# Altium footprint library PCB1.PcbLib: 18 footprints (part 1 of 2)
Each footprint in its own frame and in the unit in brackets; x right, y up, seen from the top. Pads: shape width x height; smd on the part's side, far side on the other; paste and mask are expansions set on the pad; w line width, h text height; cw(c..) or ccw(c..) is an arc to the next point about the centre after c.
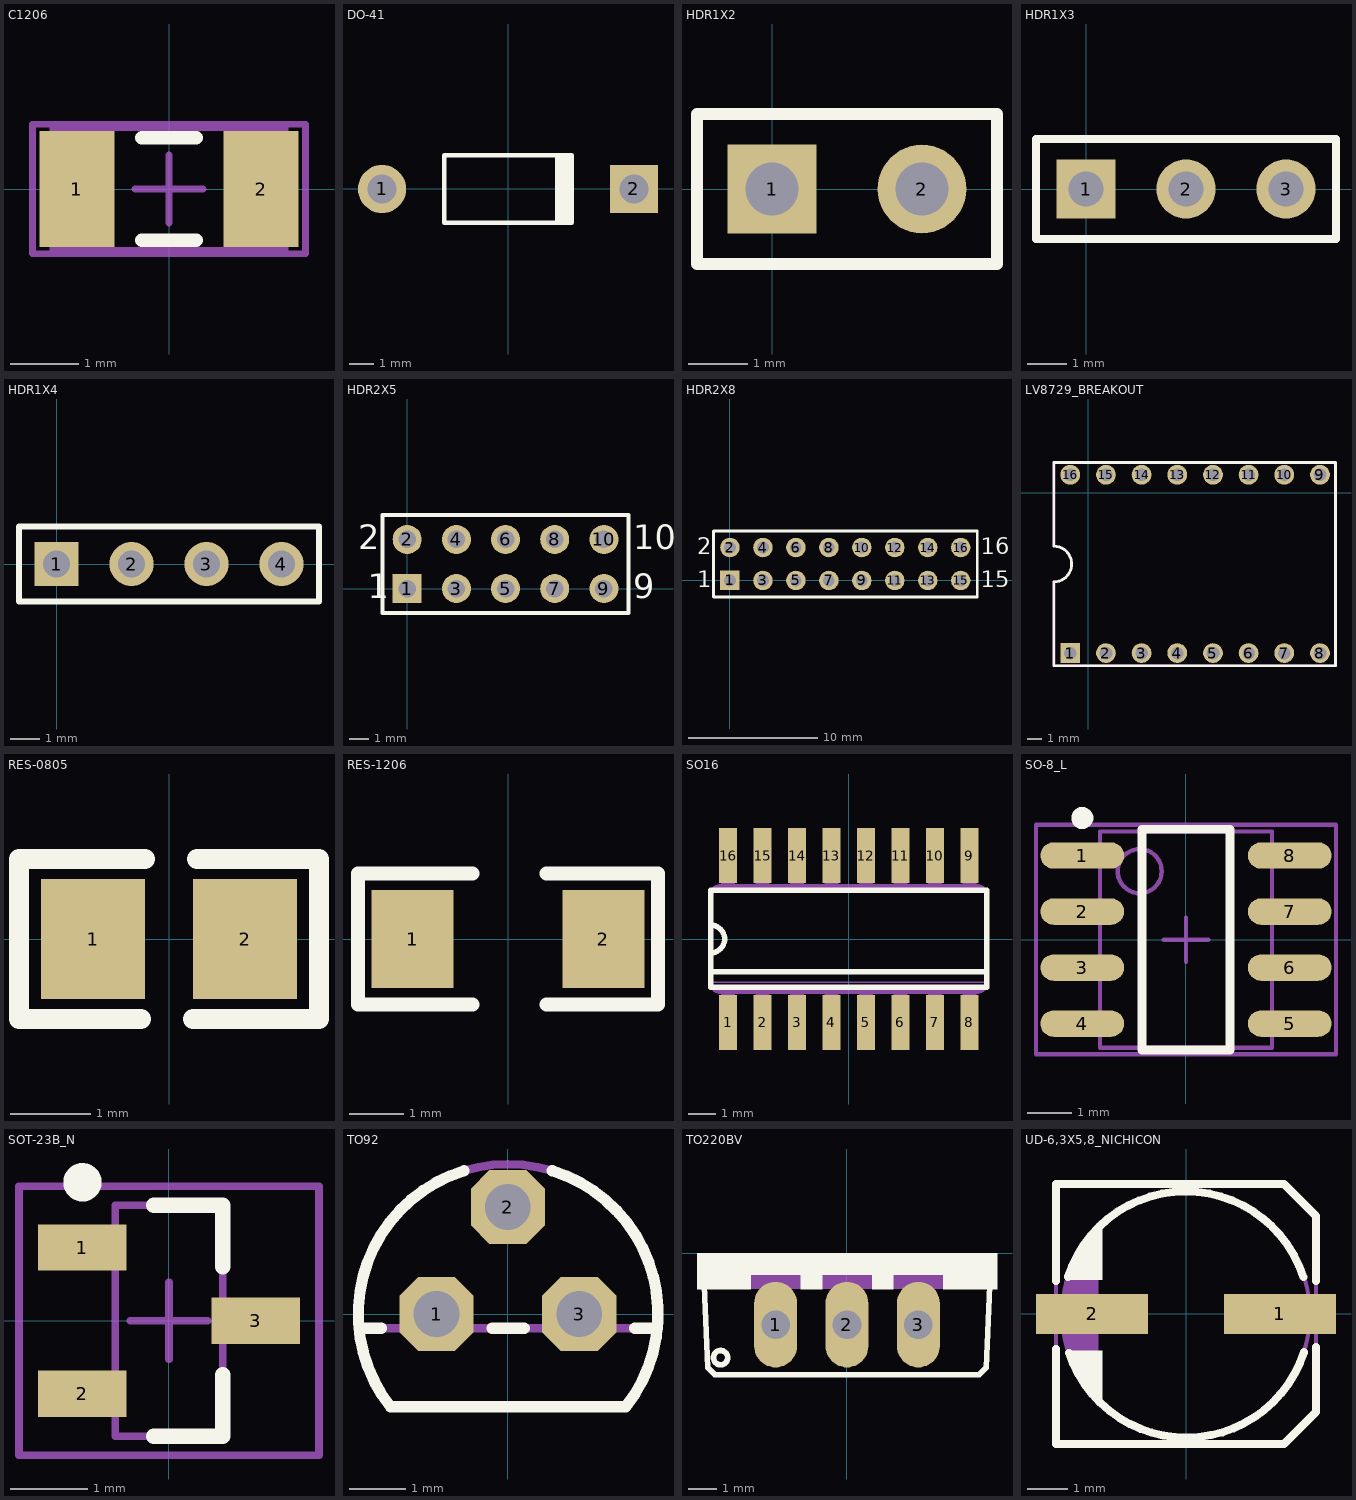
[diagram p0: the footprints below, top view; thin cyan lines are the x and y axes]

## C1206 [mm] "Chip Capacitor, Body 3.2x1.6mm, IPC High Density"
height 1.3
pads (2):
  rect 1.1x1.7 smd: 1(-1.35,0) 2(1.35,0)
Top Overlay:
  lines w0.2: -0.4,-0.75 0.4,-0.75 ; -0.4,0.75 0.4,0.75
Mechanical 13:
  lines w0.1: -1.7,-0.9 -1.7,0.9 1.7,0.9 1.7,-0.9 -1.7,-0.9
Mechanical 15:
  lines w0.1: -0.5,0 0.5,0 ; 0,-0.5 0,0.5 ; -2,-0.95 -2,0.95 2,0.95 2,-0.95 -2,-0.95
3D body "CAP 1206.x_t": height 1.64, standoff 0.01, extent -1.6,-0.8 1.6,0.824

## DO-41 [mm] "Diode, Axial; Body 5.2 x 2.7 mm (LxDia. max), Lead Dia. 0.86 mm (max)"
height 2.8
pads (2):
  round 2 hole 1.2: 1(-5.23,0)
  rect 2x2 hole 1.2: 2(5.23,0)
Top Overlay:
  rectangle: 1.95,-1.4 2.75,1.4
  lines w0.2: 2.65,-1.4 -2.65,-1.4 -2.65,1.4 2.65,1.4
3D body "DO-41-L=10.5.x_t": height 2.82, standoff -2.3, extent -5.654,-1.319 5.704,1.32

## HDR1X2 [mm] "Connector; Header; 2 Position"
pads (2):
  rect 1.5x1.5 hole 0.9: 1(0,0)
  round 1.5 hole 0.9: 2(2.54,0)
Top Overlay:
  lines w0.2: -1.27,-1.27 -1.27,1.27 3.81,1.27 3.81,-1.27 -1.27,-1.27
3D body "PLS-2 (DS1021-1x2).x_b": height 8.61, standoff -2.99, extent -1.265,-1.275 3.815,1.265

## HDR1X3 [mm] "Connector; Header; 3 Position"
pads (3):
  rect 1.5x1.5 hole 0.9: 1(0,0)
  round 1.5 hole 0.9: 2(2.54,0) 3(5.08,0)
Top Overlay:
  lines w0.2: -1.27,-1.27 6.35,-1.27 6.35,1.27 -1.27,1.27 -1.27,-1.27
3D body "PLS-3 (DS1021-1x3).x_b": height 8.61, standoff -2.99, extent -1.285,-1.275 6.335,1.265

## HDR1X4 [mm] "Connector; Header; 4 Position"
pads (4):
  rect 1.5x1.5 hole 0.9: 1(0,0)
  round 1.5 hole 0.9: 2(2.54,0) 3(5.08,0) 4(7.62,0)
Top Overlay:
  lines w0.2: -1.27,-1.27 8.89,-1.27 8.89,1.27 -1.27,1.27 -1.27,-1.27
3D body "PLS-4 (DS1021-1x4).x_b": height 8.61, standoff -2.99, extent -1.28,-1.275 8.88,1.265

## HDR2X5 [mm] "Connector; Header; 5x2 Position"
pads (10):
  rect 1.5x1.5 hole 0.9: 1(0,0)
  round 1.5 hole 0.9: 2(0,2.54) 3(2.54,0) 4(2.54,2.54) 5(5.08,0) 6(5.08,2.54) 7(7.62,0) 8(7.62,2.54) 9(10.16,0) 10(10.16,2.54)
Top Overlay:
  lines w0.2: -1.27,-1.27 -1.27,3.81 11.43,3.81 11.43,-1.27 -1.27,-1.27
  text "2" at -2.54,2.032 h1.27
  text "1" at -2.032,-0.508 h1.27
  text "9" at 11.684,-0.508 h1.27
  text "10" at 11.684,2.032 h1.27
3D body "PLS (DS1021-2x5).x_t": height 8.61, standoff -2.99, extent -1.275,-1.28 11.425,3.8

## HDR2X8 [mm] "Connector; Header; 8x2 Position"
pads (16):
  rect 1.5x1.5 hole 0.9: 1(0,0)
  round 1.5 hole 0.9: 2(0,2.54) 3(2.54,0) 4(2.54,2.54) 5(5.08,0) 6(5.08,2.54) 7(7.62,0) 8(7.62,2.54) 9(10.16,0) 10(10.16,2.54) 11(12.7,0) 12(12.7,2.54) 13(15.24,0) 14(15.24,2.54) 15(17.78,0) 16(17.78,2.54)
Top Overlay:
  lines w0.2: -1.27,-1.27 -1.27,3.81 19.05,3.81 19.05,-1.27 -1.27,-1.27
  text "2" at -2.54,2.032 h1.27
  text "1" at -2.54,-0.508 h1.27
  text "15" at 19.304,-0.508 h1.27
  text "16" at 19.304,2.032 h1.27
3D body "PLS (DS1021-2x8).x_t": height 8.61, standoff -2.99, extent -1.285,-1.28 19.035,3.8

## LV8729_BREAKOUT [mil] "LV8729_BREAKOUT"
pads (16):
  rect 55.43x55.43 hole 35.43: 1(-50,-450)
  round 55.43 / inner round 0 / far side round 55.43 hole 35.43: 2(50,-450) 3(150,-450) 4(250,-450) 5(350,-450) 6(450,-450) 7(550,-450) 8(650,-450) 9(650,50) 10(550,50) 11(450,50) 12(350,50) 13(250,50) 14(150,50) 15(50,50) 16(-50,50)
Top Overlay:
  lines w7.87: -96.1,-485.35 -96.1,-250.35 ccw(c-96.1,-200.35) -96.1,-150.35 -96.1,84.65 693.9,84.65 693.9,-485.35 -96.1,-485.35
Mechanical 7:
  lines w6: -95,-485 -95,-250 ccw(c-95,-200) -95,-150 -95,85 695,85 695,-485 -95,-485
  text "EN" at -25,-400 h59.06
  text "MS1" at 75,-400 h59.06
  text "MS2" at 175,-400 h59.06
  text "MS3" at 275,-400 h59.06
  text "RST" at 375,-400 h59.06
  text "STEP" at 575,-400 h59.06
  text "DIR" at 675,-400 h59.06
  text "Vmot" at -35.43,-119.09 h59.06
  text "GND" at 66.93,-105.31 h59.06
  text "2B" at 166.34,-53.15 h59.06
  text "2A" at 261.81,-52.17 h59.06
  text "1A" at 361.22,-56.1 h59.06
  text "1B" at 467.52,-57.09 h59.06
  text "VDD" at 568.9,-101.38 h59.06
  text "GND" at 667.32,-103.35 h59.06
  text "SLP" at 475,-400 h59.06
3D body "LV8729Driver.x_b": height 1024.13, standoff -117.61, extent -100.39,-500.99 700.79,99.41

## RES-0805 [mm] "Chip Resistor; Body 2 x 1.3 mm (LxW typ)"
height 0.6
pads (2):
  rect 1.3x1.5 smd: 1(-0.95,0) 2(0.95,0)
Top Overlay:
  lines w0.254: -0.35,-1 -1.875,-1 -1.875,1 -0.3,1 ; 0.3,-1 1.875,-1 1.875,1 0.35,1
3D body "Resistor 0805.x_b": height 0.51, standoff 0.01, extent -1.236,-0.65 1.286,0.6

## RES-1206 [mm] "Chip Resistor; Body  x mm (LxW typ)"
pads (2):
  rect 1.5x1.8 smd: 1(-1.75,0) 2(1.75,0)
Top Overlay:
  lines w0.254: -2.75,1.175 -2.75,-1.2 -0.65,-1.2 ; -2.75,1.2 -0.65,1.2 ; 0.7,-1.2 2.75,-1.2 2.75,1.175 ; 0.7,1.2 2.75,1.2
3D body "Resistor 1206.x_t": height 0.61, standoff 0.01, extent -1.9,-0.8 1.9,0.8

## SO16 [mil] "SO16"
pads (16):
  rect 26x80 smd: 1(-175,-121) 2(-125,-121) 3(-75,-121) 4(-25,-121) 5(25,-121) 6(75,-121) 7(125,-121) 8(175,-121) 9(175,121) 10(125,121) 11(75,121) 12(25,121) 13(-25,121) 14(-75,121) 15(-125,121) 16(-175,121)
Top Overlay:
  lines w7.87: -200,-47.24 200,-47.24 ; -200,70.87 -200,20 ; -199.8,70.87 200,70.87 200,-70.11 -200,-70.11 -200,-20 ; -200,-20 ccw(c-200,0) -200,20 ; -200,-20 -200,20
Mechanical 4:
  region: 165,77 165,122 185,122 185,77
  region: 115,77 115,122 135,122 135,77
  region: 65,77 65,122 85,122 85,77
  region: 15,77 15,122 35,122 35,77
  region: 165,-122 165,-77 185,-77 185,-122
  region: 115,-122 115,-77 135,-77 135,-122
  region: 65,-122 65,-77 85,-77 85,-122
  region: 15,-122 15,-77 35,-77 35,-122
  region: -185,77 -185,122 -165,122 -165,77
  region: -135,77 -135,122 -115,122 -115,77
  region: -85,77 -85,122 -65,122 -65,77
  region: -35,-122 -35,-77 -15,-77 -15,-122
  region: -85,-121 -85,-76 -65,-76 -65,-121
  region: -135,-122 -135,-77 -115,-77 -115,-122
  region: -185,-122 -185,-77 -165,-77 -165,-122
  region: -35,77 -35,122 -15,122 -15,77
  lines w6: -185,-77 185,-77 ; -185,77 185,77
Mechanical 8:
  lines w2: -200,-63 200,-63
  lines w6: -185,-77 cw(c-185,-62) -200,-62 -200,-20 ; -185,77 ccw(c-185,62) -200,62 -200,20 ; 185,-77 ccw(c185,-62) 200,-62 200,62 ccw(c185,62) 185,77 ; -200,-20 ccw(c-200,0) -200,20 ; -200,-20 -200,20
3D body "SOIC16 narrow.x_b": height 78.74, standoff 0.13, extent -198.43,-121.32 198.43,121.32

## SO-8_L [mm] "8-Pin Small Outline Integrated Circuit 1.27 mm Pitch, IPC High Density"
height 1.75
pads (8):
  oval 1.9x0.6 smd: 1(-2.35,1.905) 2(-2.35,0.635) 3(-2.35,-0.635) 4(-2.35,-1.905) 5(2.35,-1.905) 6(2.35,-0.635) 7(2.35,0.635) 8(2.35,1.905)
Top Overlay:
  circle w0.25: c-2.35,2.755 r0.125
  lines w0.2: -1,-2.5 -1,2.5 1,2.5 1,-2.5 -1,-2.5
Mechanical 13:
  circle w0.1: c-1.05,1.55 r0.5
  lines w0.1: -1.95,-2.45 -1.95,2.45 1.95,2.45 1.95,-2.45 -1.95,-2.45
Mechanical 15:
  lines w0.1: -0.5,0 0.5,0 ; 0,-0.5 0,0.5 ; -3.4,-2.6 -3.4,2.6 3.4,2.6 3.4,-2.6 -3.4,-2.6
3D body "SO-8.x_t": height 1.51, standoff 0.01, extent -3.089,-2.425 2.939,2.475

## SOT-23B_N [mm] "SOT23, 3-Leads, Body 2.9x1.3mm, Pitch 0.95mm, Lead Span 2.4mm, IPC Medium Density"
height 1.14
pads (3):
  rect 1.15x0.6 smd: 1(-1.125,0.95) 2(-1.125,-0.95) 3(1.125,0)
Top Overlay:
  circle w0.25: c-1.125,1.8 r0.125
  lines w0.2: -0.2,-1.5 0.7,-1.5 0.7,-0.7 ; -0.2,1.5 0.7,1.5 0.7,0.7
Mechanical 13:
  lines w0.1: -0.7,-1.5 0.7,-1.5 0.7,1.5 -0.7,1.5 -0.7,-1.5
Mechanical 15:
  lines w0.1: -0.5,0 0.5,0 ; 0,-0.5 0,0.5 ; -1.95,-1.75 1.95,-1.75 1.95,1.75 -1.95,1.75 -1.95,-1.75
3D body "sot-23-3-infineon.x_b": height 1, standoff 0, extent -1.135,-1.45 1.185,1.45

## TO92 [mil] "TO92"
pads (3):
  oct 52x52 / inner round 0 / far side oct 52x52 hole 32: 1(-50,0) 2(0,75) 3(50,0)
Top Overlay:
  lines w7.87: -104.33,-9.96 -88.54,-9.96 ; -30.78,100.37 ccw(c0.18,0.04) -82.28,-64.96 82.68,-64.96 ccw(c0.22,0.04) 31.18,100.37 ; -11.06,-9.96 11.46,-9.96 ; 88.94,-9.96 104.73,-9.96
Mechanical 3:
  lines w6: -88.74,-10 -11.26,-10 ; -30.96,100.33 cw(c0,0) 30.96,100.33 ; 11.26,-10 88.74,-10
Mechanical 7:
  lines w6: -104.53,-10 -88.74,-10 ; -30.98,100.33 ccw(c-0.02,0) -82.48,-65 82.48,-65 ccw(c0.02,0) 30.98,100.33 ; -11.26,-10 11.26,-10 ; 88.74,-10 104.53,-10
3D body "TO-92_triangle_pin.x_b": height 322.83, standoff -118.11, extent -98.43,-55.36 99.33,116.39

## TO220BV [mil] "TO220BV"
pads (3):
  oval 60x120 / inner round 0 / far side oval 60x120 hole 40: 1(-100,-100) 2(0,-100) 3(100,-100)
Top Overlay:
  circle w7.87: c-176.96,-146.28 r10
  region: 35.04,-50.28 35.04,-30.28 65.04,-30.28 65.04,-50.28
  region: -64.96,-50.28 -64.96,-30.28 -34.96,-30.28 -34.96,-50.28
  region: -209.96,-50.28 -209.96,-30.28 -134.96,-30.28 -134.96,-50.28
  region: 135.04,-50.28 135.04,-30.28 210.04,-30.28 210.04,-50.28
  region: -209.96,-30.28 -209.96,-0.28 210.04,-0.28 210.04,-30.28
  lines w7.87: -199.96,-45.28 -194.96,-160.28 -184.96,-170.28 185.04,-170.28 195.04,-160.28 200.04,-45.28
Mechanical 3:
  region: 65,-50 65,-30 135,-30 135,-50
  region: -35,-50 -35,-30 35,-30 35,-50
  region: -135,-50 -135,-30 -65,-30 -65,-50
Mechanical 7:
  circle w0: c-177,-146 r10
  region: -210,-30 -210,0 210,0 210,-30
  region: -210,-50 -210,-30 -135,-30 -135,-50
  region: -65,-50 -65,-30 -35,-30 -35,-50
  region: 35,-50 35,-30 65,-30 65,-50
  region: 135,-50 135,-30 210,-30 210,-50
  lines w6: -200,-45 -195,-160 -185,-170 185,-170 195,-160 200,-45
3D body "TO-220HS.x_b": height 730, standoff -150, extent -199.99,-154.99 200.01,25

## UD-6,3X5,8_NICHICON [mm] "UD-6,3X5,8_NICHICON"
pads (2):
  rect 2.8x1 smd: 1(2.35,0) 2(-2.35,0)
Top Overlay:
  region: -2.1,2.314 -2.1,0.85 -2.884,0.85 -2.953,0.919
  region: -2.1,-0.919 -2.1,-2.325 -2.325,-2.069 -2.95,-0.919
  lines w0.2: -3.25,-0.875 -3.25,-1.625 -3.25,-3.25 2.45,-3.25 3.25,-2.45 3.25,-0.825 ; -3.25,0.825 -3.25,1.625 -3.25,3.25 2.45,3.25 3.25,2.45 3.25,0.825 ; -2.953,0.919 cw(c-0.01,-0.025) 2.933,0.921 ; -2.923,-0.977 ccw(c0.01,0) 2.953,-0.944
Mechanical 4:
  circle w0.102: c0,0 r3.1
  region: -2.2,2.15 -2.339,2.008 -2.577,1.69 -2.773,1.345 -2.923,0.977 -3.024,0.593 -3.075,0.199 -3.075,-0.199 -3.024,-0.593 -2.923,-0.977 -2.773,-1.345 -2.577,-1.69 -2.339,-2.008 -2.2,-2.15
  lines w0.102: -3.25,-3.25 2.45,-3.25 3.25,-2.45 3.25,2.45 2.45,3.25 -3.25,3.25 -3.25,-3.25
Mechanical 8:
  lines w0.102: -3.25,-0.7 -3.25,-3.25 2.45,-3.25 3.25,-2.45 ; -3.25,0.8 -3.25,3.25 2.45,3.25 3.25,2.45 ; -3,0.775 cw(c-0.002,0.005) 2.975,0.85 ; -2.975,-0.85 ccw(c0.002,-0.005) 3,-0.775
3D body "L6.3 SIZE CODE C55.x_b": height 5.41, standoff 0.01, extent -3.675,-3.3 3.625,3.3